# EAGLE library part ATOM-MR08C-06201 (library m_connector)
Micro SD card slot from ATOM (Shenzhen) with front cover
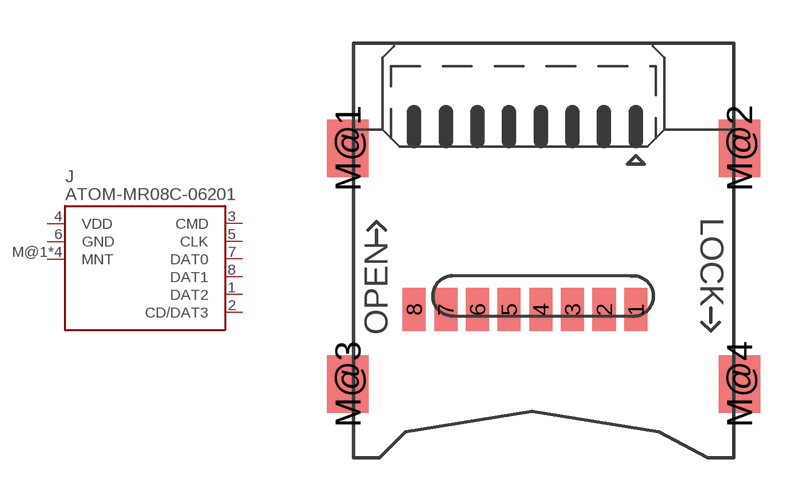
[diagram p20: symbol with the pads of ATOM-MR08C-06201; footprint ATOM-MR08C-06201]

Designator prefix J

## ATOM-MR08C-06201 (MANUF: ATOM; PARTNUM: MR08C-06201)  [ATOM-MR08C-06201]
1  DAT2  pas
2  CD/DAT3  pas
3  CMD  pas
4  VDD  pas
5  CLK  pas
6  GND  pas
7  DAT0  pas
8  DAT1  pas
M@1  MNT
M@2  MNT
M@3  MNT
M@4  MNT

## Footprint ATOM-MR08C-06201 (pad centres in mm)
Drawing number ATOM-A01682
smd 0.8 x 1.5: 1 3.2,-9.25; 2 2.1,-9.25; 3 1,-9.25; 4 -0.1,-9.25; 5 -1.2,-9.25; 6 -2.3,-9.25; 7 -3.4,-9.25; 8 -4.5,-9.25
smd 1.45 x 2: M@1 -6.8,-3.65; M@2 6.8,-3.65; M@3 -6.8,-11.85; M@4 6.8,-11.85